# EAGLE library part PWR_CHG_BQ24630RGER (library !GPLIB_ACTIVE)
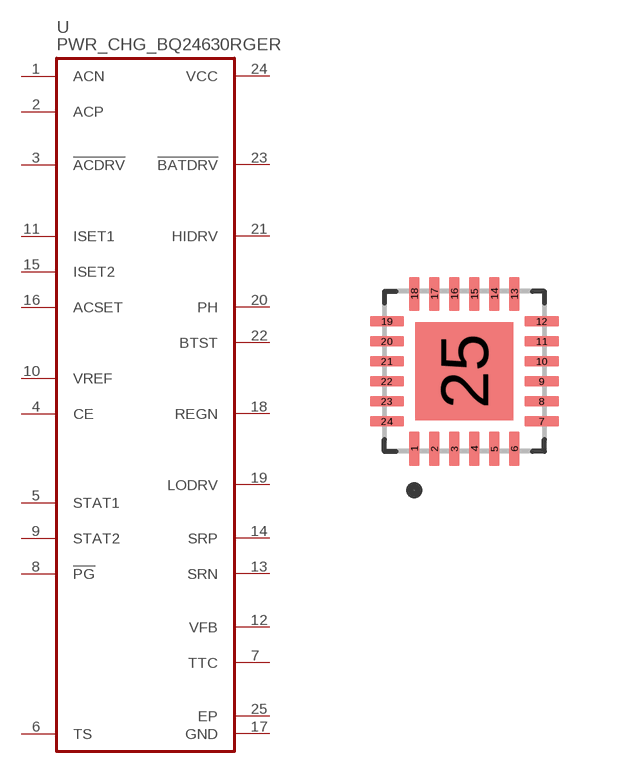
[diagram p25: symbol with the pads of QFN50P400X400X100-25N; footprint QFN50P400X400X100-25N]

Designator prefix U

## PWR_CHG_BQ24630RGER  [QFN50P400X400X100-25N]
1  ACN
2  ACP
3  !ACDRV  out
4  CE  in
5  STAT1
6  TS  in
7  TTC  in
8  !PG  out
9  STAT2
10  VREF  out
11  ISET1  in
12  VFB
13  SRN
14  SRP
15  ISET2  in
16  ACSET  in
17  GND  pwr
18  REGN  out
19  LODRV  out
20  PH  pwr
21  HIDRV  out
22  BTST  pwr
23  !BATDRV  out
24  VCC  pwr
25  EP

## Footprint QFN50P400X400X100-25N (pad centres in mm)
smd 0.27 x 0.86: 1 -1.25,-1.935; 2 -0.75,-1.935; 3 -0.25,-1.935; 4 0.25,-1.935; 5 0.75,-1.935; 6 1.25,-1.935; 13 1.25,1.935; 14 0.75,1.935; 15 0.25,1.935; 16 -0.25,1.935; 17 -0.75,1.935; 18 -1.25,1.935
smd 0.86 x 0.27: 7 1.935,-1.25; 8 1.935,-0.75; 9 1.935,-0.25; 10 1.935,0.25; 11 1.935,0.75; 12 1.935,1.25; 19 -1.935,1.25; 20 -1.935,0.75; 21 -1.935,0.25; 22 -1.935,-0.25; 23 -1.935,-0.75; 24 -1.935,-1.25
smd 2.45 x 2.45: 25 0,0